# EAGLE library part 20PIN_MALE_CONNECTOR (library Moodlight)
Steckerleiste 20Pol 90°
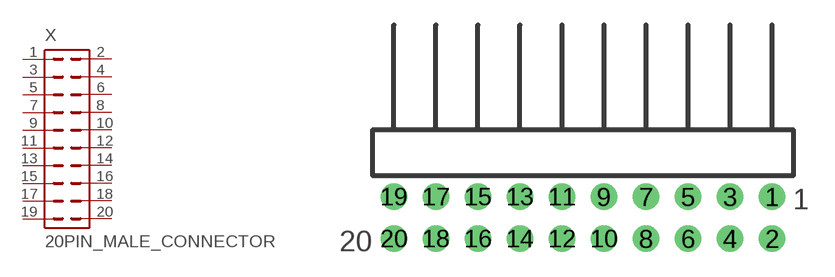
[diagram p0: symbol with the pads of 20PIN_MALE_CONNECTOR; footprint 20PIN_MALE_CONNECTOR]

Designator prefix X

## 20PIN_MALE_CONNECTOR  [20PIN_MALE_CONNECTOR]
1  1  pas
2  2  pas
3  3  pas
4  4  pas
5  5  pas
6  6  pas
7  7  pas
8  8  pas
9  9  pas
10  10  pas
11  11  pas
12  12  pas
13  13  pas
14  14  pas
15  15  pas
16  16  pas
17  17  pas
18  18  pas
19  19  pas
20  20  pas

## Footprint 20PIN_MALE_CONNECTOR (pad centres in mm)
Steckerleiste 20Pol 90°
drill 1 pad 1.6: 1 13.97,1.27; 2 13.97,-1.27; 3 11.43,1.27; 4 11.43,-1.27; 5 8.89,1.27; 6 8.89,-1.27; 7 6.35,1.27; 8 6.35,-1.27; 9 3.81,1.27; 10 3.81,-1.27; 11 1.27,1.27; 12 1.27,-1.27; 13 -1.27,1.27; 14 -1.27,-1.27; 15 -3.81,1.27; 16 -3.81,-1.27; 17 -6.35,1.27; 18 -6.35,-1.27; 19 -8.89,1.27; 20 -8.89,-1.27